# EAGLE library part DMP4047SSD-13 (library PowerComponents)
Dual P MOSFET
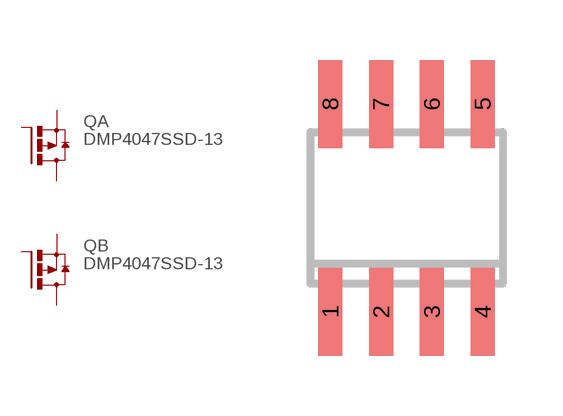
[diagram p3: symbol with the pads of SO08; footprint SO08]

Designator prefix Q; gates A=MOSFET_P B=MOSFET_P

## DMP4047SSD-13  [SO08]
1  A:S  pas
2  A:G  pas
3  B:S  pas
4  B:G  pas
5  B:D  pas
6  B:D  pas
7  A:D  pas
8  A:D  pas

## Footprint SO08 (pad centres in mm)
SMALL OUTLINE INTEGRATED CIRCUIT body 3.9 mm/JEDEC MS-012AA
smd 0.6 x 2.2: 1 -1.905,-2.6; 2 -0.635,-2.6; 3 0.635,-2.6; 4 1.905,-2.6; 5 1.905,2.6; 6 0.635,2.6; 7 -0.635,2.6; 8 -1.905,2.6